# Altium footprint library STM32F101.PcbLib: 15 footprints
Each footprint in its own frame and in the unit in brackets; x right, y up, seen from the top. Pads: shape width x height; smd on the part's side, far side on the other; paste and mask are expansions set on the pad; w line width, h text height; cw(c..) or ccw(c..) is an arc to the next point about the centre after c.
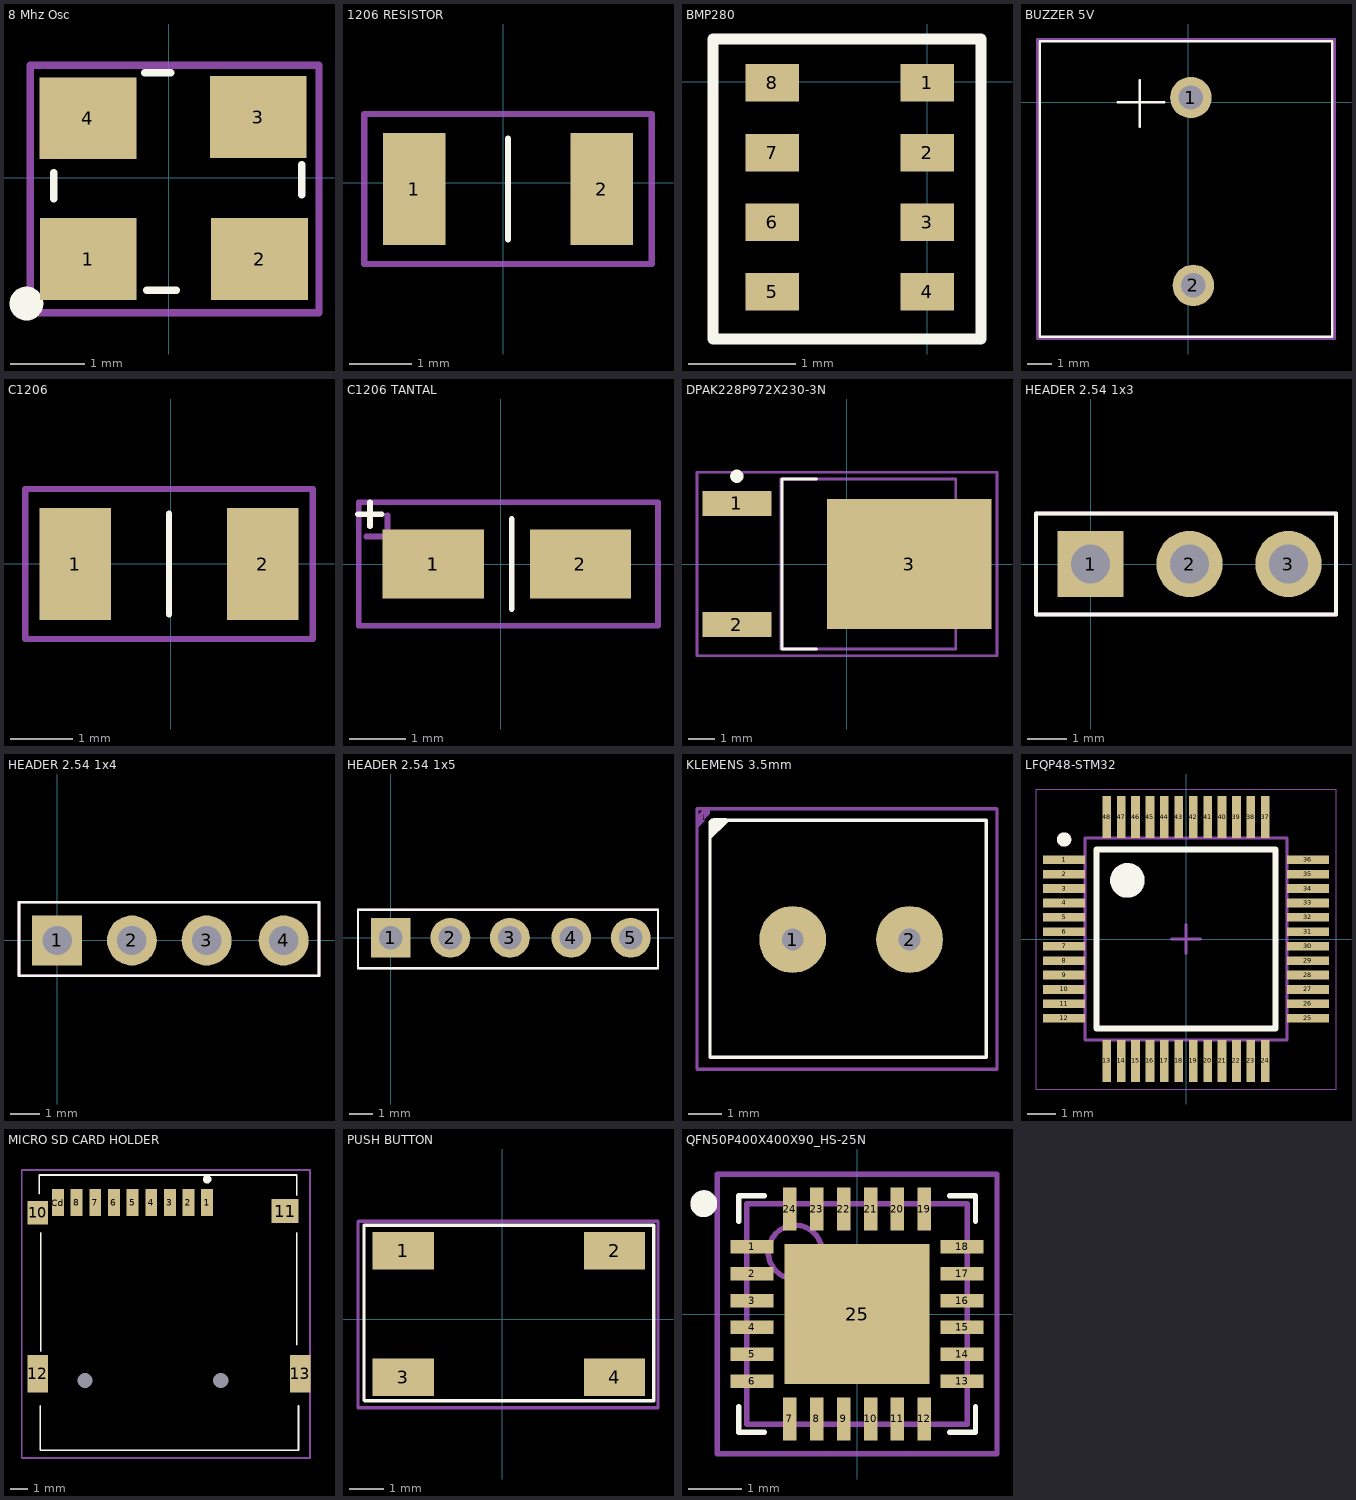
[diagram p0: the footprints below, top view; thin cyan lines are the x and y axes]

## 8 Mhz Osc [mm]
pads (4):
  rect 1.3x1.1 smd mask+0.05: 1(-1.081,-1.09) 2(1.219,-1.09) 3(1.203,0.817) 4(-1.086,0.801)
Top Overlay:
  circle w0.254: c-1.912,-1.689 r0.1
  lines w0.1: -1.545,-0.282 -1.545,0.072 ; -0.324,1.41 0.03,1.41 ; -0.299,-1.511 0.101,-1.511 ; 1.784,-0.224 1.784,0.176
Mechanical 3:
  circle w0.254: c-1.316,-1.124 r0.1
  lines w0.1: -1.861,-1.811 2.018,-1.811 2.018,1.513 -1.861,1.513 -1.861,-1.811
3D body "ASE3.STEP": height 1.22, standoff -0.03, extent -1.479,-1.241 1.721,1.259

## 1206 RESISTOR [mm]
pads (2):
  rect 1x1.8 smd mask+0.05: 1(-1.425,-0.1) 2(1.575,-0.1)
Top Overlay:
  lines w0.1: 0.075,-0.905 0.075,0.705
Mechanical 3:
  lines w0.1: -2.225,-1.3 -2.225,1.1 2.375,1.1 2.375,-1.3 -2.225,-1.3
3D body "1206RES.step": height 0.55, standoff 0, extent -1.525,-0.905 1.675,0.705

## BMP280 [mm]
pads (8):
  rect 0.5x0.35 smd: 1(0.001,-0.01) 2(0.001,-0.66) 3(0.001,-1.31) 4(0.001,-1.96) 5(-1.449,-1.96) 6(-1.449,-1.31) 7(-1.449,-0.66) 8(-1.449,-0.01)
Top Overlay:
  lines w0.1: -2,-2.4 0.5,-2.4 0.5,0.4 -2,0.4 -2,-2.4
3D body "User Library-BMP280.step": height 0.95, standoff -0.01, extent -1.7,-2.25 0.3,0.25

## BUZZER 5V [mm]
pads (2):
  round 1.7 hole 1: 1(0.1,0.2) 2(0.2,-7.5)
Top Overlay:
  lines w0.1: -2.9,0 -1,0 -2.7,0 ; -2,-1 -2,0.9 ; -6.1,-9.6 5.9,-9.6 5.9,2.5 ; -6.1,-9.6 -6.1,2.5 5.9,2.5 ; -6.1,-9.6 -6.1,-9.6 ; 5.9,2.5 5.9,2.2 5.9,2.5
Mechanical 3:
  lines w0.1: -6.2,-9.7 -6.2,2.6 6,2.6 6,-9.7 -6.1,-9.7 -6.2,-9.7
3D body "User Library-Buzzer CEM-1205C.STEP": height 9, standoff -4, extent -5.9,-9.6 6.098,2.4

## C1206 [mm]
pads (2):
  rect 1.15x1.8 smd mask+0.05: 1(-1.525,0) 2(1.475,0)
Top Overlay:
  lines w0.1: -0.025,-0.805 -0.025,0.805
Mechanical 3:
  lines w0.1: -2.325,-1.2 2.275,-1.2 2.275,1.2 -2.325,1.2 -2.325,-1.2
3D body "1206CAP.step": height 1, standoff 0, extent -1.625,-0.8 1.575,0.8

## C1206 TANTAL [mm]
pads (3):
  rect 1.8x1.23 smd mask+0.05: 1(-1.2,0) 1(-1.2,0) 2(1.42,0)
Top Overlay:
  lines w0.1: -2.538,0.888 -2.113,0.888 ; -2.325,0.675 -2.325,1.1 ; 0.2,-0.8 0.2,0.8
Mechanical 3:
  lines w0.1: -2.394,0.489 -1.632,0.489 ; -2.013,0.108 -2.013,0.87 ; -2.525,-1.1 -2.525,1.1 2.8,1.1 2.8,-1.1 -2.525,-1.1
3D body "User Library-CaseA_3216-18.step": height 1.62, standoff 0.02, extent -1.5,-0.8 1.7,0.8

## DPAK228P972X230-3N [mm] "D-PAK, 3-Pads, Body 6,40x6,56mm (max), IPC Medium Density"
height 2.3
pads (3):
  rect 2.6x0.95 smd mask+0.05: 1(-4.15,2.28) 2(-4.15,-2.28)
  rect 6.2x4.9 smd mask+0.05: 3(2.35,0)
Top Overlay:
  circle w0.25: c-4.15,3.305 r0.125
  lines w0.1: -1.15,-3.2 -2.45,-3.2 -2.45,3.2 -1.15,3.2
Mechanical 3:
  lines w0.1: -0.5,0 0.5,0 ; 0,-0.5 0,0.5 ; -5.65,-3.45 -5.65,3.45 5.65,3.45 5.65,-3.45 -5.65,-3.45
Mechanical 13:
  lines w0.1: -2.5,-3.2 -2.5,3.2 4.1,3.2 4.1,-3.2 -2.5,-3.2
3D body: height 2.3, standoff 1, extent -2.5,-3.2 4.1,3.2

## HEADER 2.54 1x3 [mm]
pads (3):
  rect 1.7x1.7 hole 1: 1(0,0)
  round 1.7 hole 1: 2(2.54,0) 3(5.08,0)
Top Overlay:
  lines w0.1: -1.4,-1.3 6.3,-1.3 6.3,1.3 -1.4,1.3 -1.4,-1.3
Mechanical 3:
  lines w0.1: -0.8,-1.3 -1.4,-1.3 ; -1.4,-1.3 6.3,-1.3 6.3,1.3 -1.4,1.3 -1.4,-1.3
3D body "User Library-ZL262-3SG.STEP": height 9.1, standoff -2.45, extent -1.4,-1.25 6.22,1.25

## HEADER 2.54 1x4 [mm]
pads (4):
  rect 1.7x1.7 hole 1: 1(0,0)
  round 1.7 hole 1: 2(2.54,0) 3(5.08,0) 4(7.7,0)
Top Overlay:
  lines w0.1: -1.3,-1.2 8.9,-1.2 8.9,1.3 -1.3,1.3 -1.3,-1.2
Mechanical 3:
  lines w0.1: -1.3,-1.2 8.9,-1.2 8.9,1.3 -1.3,1.3 -1.3,-1.2
3D body "User Library-ZL262-4SG.STEP": height 9.1, standoff -2.45, extent -1.28,-1.2 8.88,1.3

## HEADER 2.54 1x5 [mm]
pads (5):
  rect 1.7x1.7 hole 1: 1(0,0)
  round 1.7 hole 1: 2(2.54,0) 3(5.08,0) 4(7.7,0) 5(10.24,0)
Top Overlay:
  lines w0.1: -1.4,-1.3 -1.4,1.2 11.4,1.2 11.4,-1.3 -1.4,-1.3
Mechanical 3:
  lines w0.1: -1.4,-1.3 -1.4,1.2 11.4,1.2 11.4,-1.3 -1.4,-1.3
3D body "User Library-ZL262-5SG.STEP": height 9.1, standoff -2.45, extent -1.35,-1.3 11.35,1.2

## KLEMENS 3.5mm [mm]
pads (2):
  round 2 hole 0.65: 1(20.1,7.75) 2(23.6,7.75)
Top Overlay:
  region: 18.167,11.282 17.594,10.709 17.594,11.244 17.728,11.377 18.107,11.377
  lines w0.1: 17.625,11.275 17.625,4.225 25.9,4.225 25.9,11.325 17.675,11.325
Mechanical 3:
  region: 17.452,11.66 17.236,11.444 17.236,11.661 17.238,11.66 17.452,11.66 17.452,11.296 17.238,11.082 17.238,11.66 17.452,11.66 17.459,11.653 17.618,11.653 17.618,11.509 17.415,11.307
  lines w0.1: 17.238,3.878 17.247,3.869 26.217,3.869 26.217,11.66 17.452,11.66 17.238,11.66 17.238,3.878
3D body "terminal_blocks_a-tb350-te02.stp": height 8.9, standoff -3.29, extent 17.8,4.35 25.794,11.35

## LFQP48-STM32 [mm]
height 1.6
pads (48):
  rect 1.45x0.3 smd mask+0.05: 1(-4.225,2.75) 2(-4.225,2.25) 3(-4.225,1.75) 4(-4.225,1.25) 5(-4.225,0.75) 6(-4.225,0.25) 7(-4.225,-0.25) 8(-4.225,-0.75) 9(-4.225,-1.25) 10(-4.225,-1.75) 11(-4.225,-2.25) 12(-4.225,-2.75) 25(4.225,-2.75) 26(4.225,-2.25) 27(4.225,-1.75) 28(4.225,-1.25) 29(4.225,-0.75) 30(4.225,-0.25) 31(4.225,0.25) 32(4.225,0.75) 33(4.225,1.25) 34(4.225,1.75) 35(4.225,2.25) 36(4.225,2.75)
  rect 0.3x1.45 smd mask+0.05: 13(-2.75,-4.225) 14(-2.25,-4.225) 15(-1.75,-4.225) 16(-1.25,-4.225) 17(-0.75,-4.225) 18(-0.25,-4.225) 19(0.25,-4.225) 20(0.75,-4.225) 21(1.25,-4.225) 22(1.75,-4.225) 23(2.25,-4.225) 24(2.75,-4.225) 37(2.75,4.225) 38(2.25,4.225) 39(1.75,4.225) 40(1.25,4.225) 41(0.75,4.225) 42(0.25,4.225) 43(-0.25,4.225) 44(-0.75,4.225) 45(-1.25,4.225) 46(-1.75,4.225) 47(-2.25,4.225) 48(-2.75,4.225)
Top Overlay:
  circle w0.6: c-2.032,2.032 r0.3
  circle w0.25: c-4.225,3.45 r0.125
  lines w0.2: -3.1,-3.1 -3.1,3.1 3.1,3.1 3.1,-3.1 -3.1,-3.1
Mechanical 3:
  lines w0.01: -5.2,-5.2 -5.2,5.2 5.2,5.2 5.2,-5.2 -5.2,-5.2
  lines w0.1: -0.5,0 0.5,0 ; 0,-0.5 0,0.5
Mechanical 13:
  circle w0.1: c-2.032,2.032 r0.5
  lines w0.1: -3.5,-3.5 -3.5,3.5 3.5,3.5 3.5,-3.5 -3.5,-3.5
3D body: height 1.6, standoff 0.05, extent -3.5,-3.5 3.5,3.5

## MICRO SD CARD HOLDER [mm]
pads (15):
  rect 0.7x1.6 smd paste+0 mask+0: 1(46.984,20.075) 2(45.884,20.075) 3(44.784,20.075) 4(43.684,20.075) 5(42.584,20.075) 6(41.484,20.075) 7(40.384,20.075) 8(39.284,20.075) Cd(38.184,20.075)
  rect 1.2x1.4 smd paste+0 mask+0: 10(36.984,19.475)
  rect 1.6x1.4 smd paste+0 mask+0: 11(51.584,19.575)
  rect 1.2x2.2 smd paste+0 mask+0: 12(36.984,9.975) 13(52.484,9.975)
  round 0 hole 0.9 unplated paste-1000 mask+0: ""(39.784,9.575) ""(47.784,9.575)
Top Overlay:
  circle w0.25: c46.984,21.45 r0.125
  lines w0.1: 37.075,20.6 37.075,21.7 52.275,21.7 52.275,20.5 ; 37.143,8.075 37.143,5.452 52.375,5.452 52.375,8.075 ; 37.175,11.3 37.175,18.3 ; 52.275,11.7 52.275,18.3
Mechanical 3:
  lines w0.1: 36.05,5 53.05,5 53.05,22 52.8,22 36.55,22 36.05,22 36.05,5
3D body "User Library-MEM2055-00-190-01-A_revG.step": height 1.85, standoff -0.6, extent 36.733,5.58 52.733,20.83

## PUSH BUTTON [mm]
pads (4):
  rect 1.8x1.1 smd mask+0.05: 1(-2.9,2) 2(3.3,2) 3(-2.9,-1.7) 4(3.3,-1.7)
Top Overlay:
  lines w0.1: -4.05,-2.375 -4.05,2.75 4.45,2.75 4.45,-2.4 -4.025,-2.4
Mechanical 3:
  lines w0.1: -4.225,-2.6 4.575,-2.6 4.575,2.875 -4.2,2.875 -4.225,2.85 -4.225,-2.6
3D body "User Library-4x4_SMD_Switch.step": height 1.5, standoff 0, extent -3.1,-2.5 3.3,2.7

## QFN50P400X400X90_HS-25N [mm] "QFN, 24-Leads, Body 4,00x4,00mm, Pitch 0,50mm, Thermal Pad 2,70x2,60mm, IPC Medium Density"
height 0.9
pads (25):
  rect 0.8x0.25 smd mask+0.01: 1(-1.95,1.25) 2(-1.95,0.75) 3(-1.95,0.25) 4(-1.95,-0.25) 5(-1.95,-0.75) 6(-1.95,-1.25) 13(1.95,-1.25) 14(1.95,-0.75) 15(1.95,-0.25) 16(1.95,0.25) 17(1.95,0.75) 18(1.95,1.25)
  rect 0.25x0.8 smd mask+0.01: 7(-1.25,-1.95) 8(-0.75,-1.95) 9(-0.25,-1.95) 10(0.25,-1.95) 11(0.75,-1.95) 12(1.25,-1.95) 19(1.25,1.95) 20(0.75,1.95) 21(0.25,1.95) 22(-0.25,1.95) 23(-0.75,1.95) 24(-1.25,1.95)
  rect 2.7x2.6 smd mask+0.05: 25(0,0)
Top Overlay:
  circle w0.25: c-2.85,2.05 r0.125
  lines w0.1: -2.2,-1.725 -2.2,-2.2 -1.725,-2.2 ; -2.2,1.725 -2.2,2.2 -1.725,2.2 ; 1.725,-2.2 2.2,-2.2 2.2,-1.725 ; 1.725,2.2 2.2,2.2 2.2,1.725
Mechanical 3:
  lines w0.1: -0.5,0 0.5,0 ; 0,-0.5 0,0.5 ; -2.6,-2.6 2.6,-2.6 2.6,2.6 -2.6,2.6 -2.6,-2.6
Mechanical 13:
  circle w0.1: c-1.15,1.15 r0.5
  lines w0.1: -2.05,-2.05 2.05,-2.05 2.05,2.05 -2.05,2.05 -2.05,-2.05
3D body "QFN50P400X400X90_HS-25N.step": height 0.9, standoff 0, extent -2.07,-2.07 2.07,2.07